# Altium schematic symbol library blueTooth.SchLib: 4 symbols
Pins are listed as number, name and electrical type; pins without a type are passive.

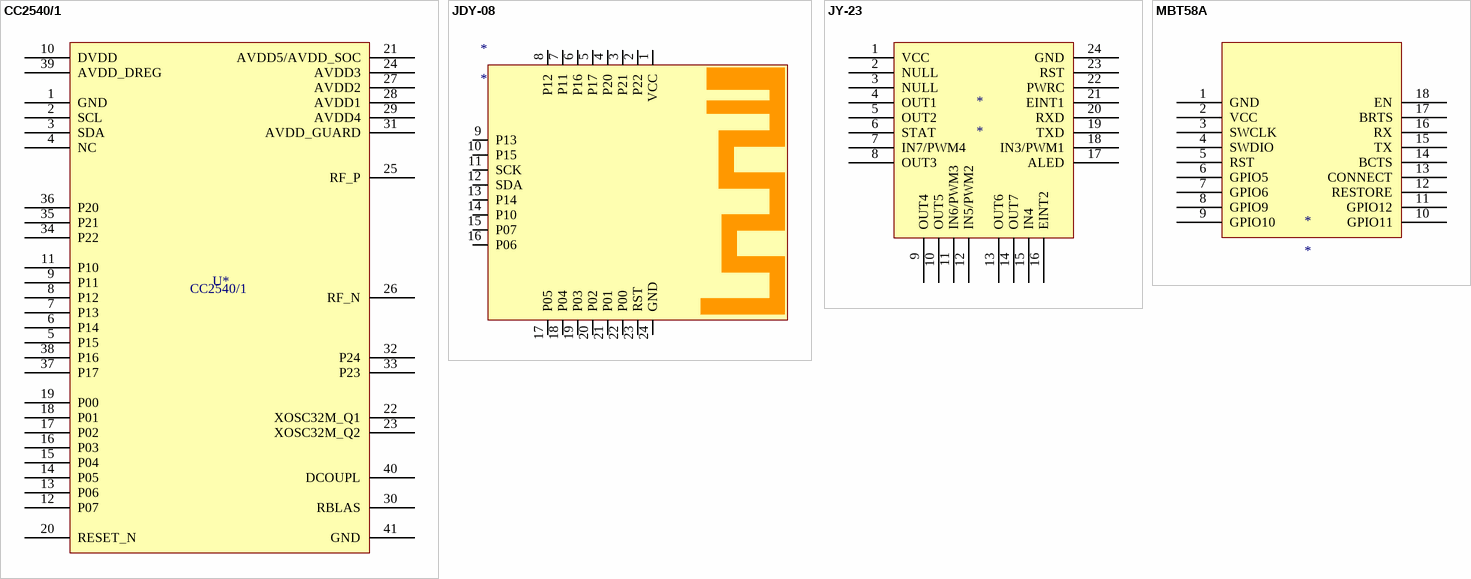
[diagram p0: symbols CC2540/1 to MBT58A]

## CC2540/1
designator U*
footprint QFPN-40_Center
pins: 1 GND, 2 SCL, 3 SDA, 4 NC, 5 P15, 6 P14, 7 P13, 8 P12, 9 P11, 10 DVDD, 11 P10, 12 P07, 13 P06, 14 P05, 15 P04, 16 P03, 17 P02, 18 P01, 19 P00, 20 RESET_N, 21 AVDD5/AVDD_SOC, 22 XOSC32M_Q1, 23 XOSC32M_Q2, 24 AVDD3, 25 RF_P, 26 RF_N, 27 AVDD2, 28 AVDD1, 29 AVDD4, 30 RBLAS, 31 AVDD_GUARD, 32 P24, 33 P23, 34 P22, 35 P21, 36 P20, 37 P17, 38 P16, 39 AVDD_DREG, 40 DCOUPL, 41 GND

## JDY-08
designator *
footprint JDY-08
pins: 1 VCC, 2 P22, 3 P21, 4 P20, 5 P17, 6 P16, 7 P11, 8 P12, 9 P13, 10 P15, 11 SCK, 12 SDA, 13 P14, 14 P10, 15 P07, 16 P06, 17 P05, 18 P04, 19 P03, 20 P02, 21 P01, 22 P00, 23 RST, 24 GND

## JY-23
designator *
footprint JDY-23
pins: 1 VCC, 2 NULL, 3 NULL, 4 OUT1, 5 OUT2, 6 STAT, 7 IN7/PWM4, 8 OUT3, 9 OUT4, 10 OUT5, 11 IN6/PWM3, 12 IN5/PWM2, 13 OUT6, 14 OUT7, 15 IN4, 16 EINT2, 17 ALED, 18 IN3/PWM1, 19 TXD, 20 RXD, 21 EINT1, 22 PWRC, 23 RST, 24 GND

## MBT58A
designator *
footprint MBT58A
pins: 1 GND, 2 VCC, 3 SWCLK, 4 SWDIO, 5 RST, 6 GPIO5, 7 GPIO6, 8 GPIO9, 9 GPIO10, 10 GPIO11, 11 GPIO12, 12 RESTORE, 13 CONNECT, 14 BCTS, 15 TX, 16 RX, 17 BRTS, 18 EN